# Altium footprint library OpenECADLib-fp-0011.PcbLib: 1 footprints
Each footprint in its own frame and in the unit in brackets; x right, y up, seen from the top. Pads: shape width x height; smd on the part's side, far side on the other; paste and mask are expansions set on the pad; w line width, h text height; cw(c..) or ccw(c..) is an arc to the next point about the centre after c.
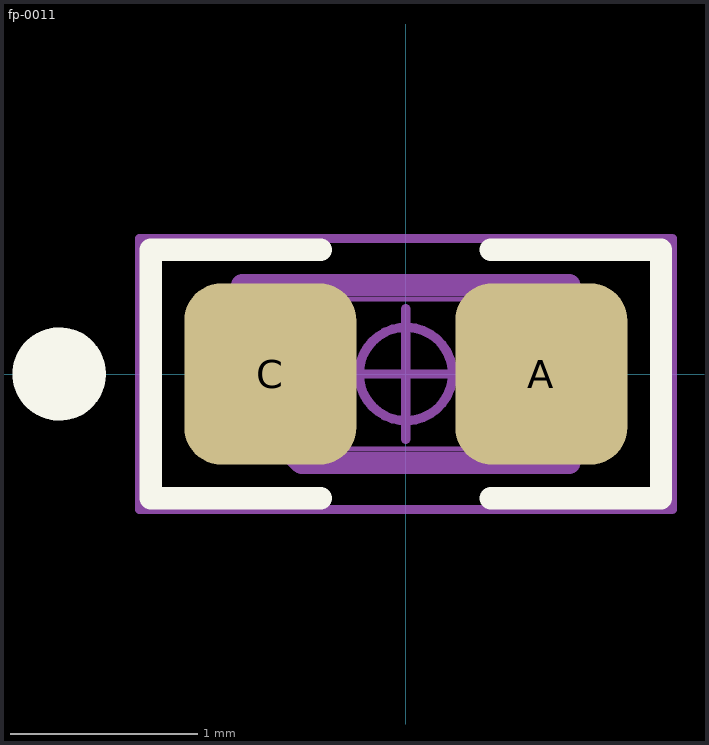
[diagram p0: the footprint, top view; thin cyan lines are the x and y axes]

## fp-0011 [mm] "LED, Chip; 1.60 mm L X 0.80 mm W X 0.70 mm H body"
height 0.7
pads (2):
  rrect43% 0.921x0.97 smd: A(0.725,0) C(-0.725,0)
Top Overlay:
  circle w0.25: c-1.855,0 r0.125
  lines w0.12: -0.455,-0.665 -1.365,-0.665 -1.365,0.665 -0.455,0.665 ; 0.455,-0.665 1.365,-0.665 1.365,0.665 0.455,0.665
Top Assembly:
  lines w0.12: -0.875,-0.158 -0.875,0.475 0.875,0.475 0.875,-0.475 -0.558,-0.475 -0.875,-0.158
Top Courtyard:
  circle w0.05: c0,0 r0.25
  lines w0.05: -0.35,0 0.35,0 ; 0,-0.35 0,0.35 ; -1.425,-0.725 -1.425,0.725 1.425,0.725 1.425,-0.725 -1.425,-0.725
Top Component Outline (Mech15):
  lines w0.025: -0.8,-0.4 -0.4,-0.4 -0.4,0.4 -0.8,0.4 ; -0.8,-0.4 -0.8,0.4 ; -0.8,-0.4 -0.8,0.4 ; -0.8,-0.4 0.8,-0.4 ; -0.8,0.4 0.8,0.4 ; 0.8,-0.4 0.8,0.4 ; 0.8,-0.4 0.4,-0.4 0.4,0.4 0.8,0.4 ; 0.8,-0.4 0.8,0.4
Top Designator:
  text ".Designator" at -2.476,-0.209 h1
3D body "3d-0011.step": height 1.1, standoff 0, extent -0.8,-0.4 0.8,0.4